# Altium integrated library BQ51013a.IntLib: 2 symbols
Pins are listed as number, name and electrical type; pins without a type are passive.

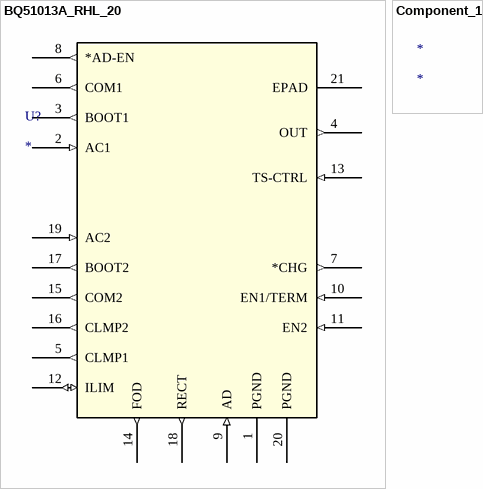
[diagram p0: symbols BQ51013A_RHL_20 to Component_1]

## BQ51013A_RHL_20
designator U?
Imported; Manufacturer_Part_Number: bq51013a_rhl_20; Vendor: TEXAS INSTRUMENTS; Value: Value; Type: Type; RefDes: RefDes
footprint RHL20_2P05X3P05
pins: 1 PGND (power), 2 AC1 (in), 3 BOOT1 (out), 4 OUT (out), 5 CLMP1 (out), 6 COM1 (out), 7 *CHG (out), 8 *AD-EN (out), 9 AD (in), 10 EN1/TERM (in), 11 EN2 (in), 12 ILIM (io), 13 TS-CTRL (in), 14 FOD (out), 15 COM2 (out), 16 CLMP2 (out), 17 BOOT2 (out), 18 RECT (out), 19 AC2 (in), 20 PGND (power), 21 EPAD

## Component_1
designator *